# Altium schematic symbol library MMBT4401.SchLib: 1 symbol
Pins are listed as number, name and electrical type; pins without a type are passive.

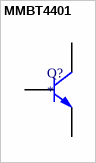
[diagram p0: symbol MMBT4401]

## MMBT4401
designator Q?
pins: 1 B, 2 E, 3 C